# Altium schematic symbol library manual.SchLib: 7 symbols
Pins are listed as number, name and electrical type; pins without a type are passive.

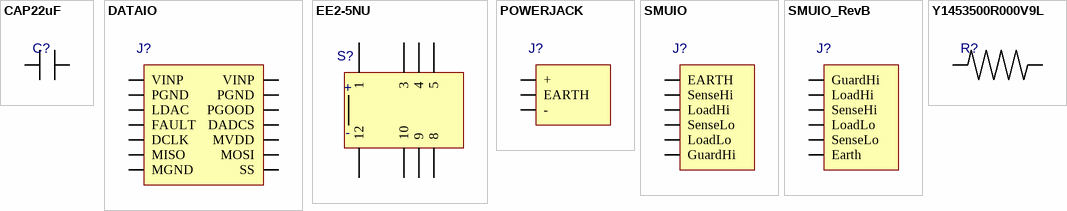
[diagram p0: symbols CAP22uF to Y1453500R000V9L]

## CAP22uF
designator C?, comment CKG57NX5R1H226M500JH  (value not drawn)
footprint CAPC6050X50M (Chip Capacitor, 2-Leads, Body 6.00x5.00mm, IPC Low Density)
pins: 1, 2

## DATAIO
designator J?, comment 5-146252-7  (value not drawn)
footprint DATAIO
pins: 1 VINP, 2 VINP, 3 PGND, 4 PGND, 5 LDAC, 6 PGOOD, 7 FAULT, 8 DADCS, 9 DCLK, 10 MVDD, 11 MISO, 12 MOSI, 13 MGND, 14 SS

## EE2-5NU
designator S?  (value not drawn)
footprint EE2-5NU
pins: 1, 3, 4, 5, 8, 9, 10, 12
text: +; -

## POWERJACK
designator J?, comment 1984620  (value not drawn)
footprint 1984620
pins: 1 +, 2 EARTH, 3 -

## SMUIO
designator J?, comment 5-146276-6  (value not drawn)
footprint SMUIO
pins: 1 EARTH, 2 SenseHi, 3 LoadHi, 4 SenseLo, 5 LoadLo, 6 GuardHi

## SMUIO_RevB
designator J?, comment 5-146276-6  (value not drawn)
footprint SMUIO
pins: 1 GuardHi, 2 LoadHi, 3 SenseHi, 4 LoadLo, 5 SenseLo, 6 Earth

## Y1453500R000V9L
designator R?  (value not drawn)
footprint Y1453500R000V9L
pins: 1, 2